# Altium schematic symbol library LM339A.SchLib: 1 symbol
Pins are listed as number, name and electrical type; pins without a type are passive.

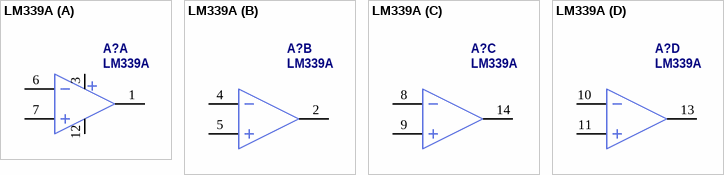
[diagram p0: symbol LM339A]

## LM339A
designator A?
part A pins: 1 1OUT (oc), 3 VCC (power), 6 1IN-, 7 1IN+, 12 GND (power)
part B pins: 2 2OUT (oc), 4 2IN-, 5 2IN+
part C pins: 8 3IN-, 9 3IN+, 14 3OUT (oc)
part D pins: 10 4IN-, 11 4IN+, 13 4OUT (oc)